# EAGLE library part SI5351A (library SI5351A)
I2C - Programmable Any - Frequency CMOS Clock Generator Source: https://www.silabs.com/Support%20Documents/TechnicalDocs/Si5351-B.pdf
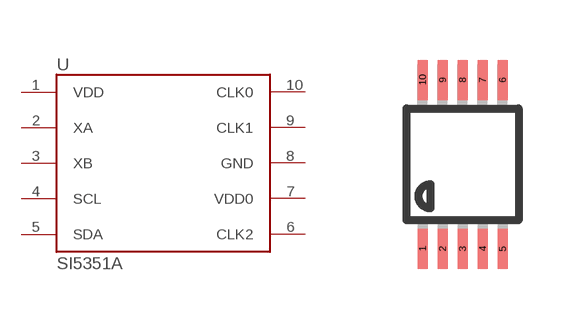
[diagram p0: symbol with the pads of MSOP10; footprint MSOP10]

Designator prefix -

## SI5351ARM  [MSOP10]
1  VDD  pwr
2  XA  in
3  XB  in
4  SCL
5  SDA
6  CLK2  out
7  VDD0  pwr
8  GND  pwr
9  CLK1  out
10  CLK0  out

## Footprint MSOP10 (pad centres in mm)
10-Lead Mini Small Outline Package [MSOP] (RM-10)
smd 0.25 x 1: 1 -1,-2.113; 2 -0.5,-2.113; 3 0,-2.113; 4 0.5,-2.113; 5 1,-2.113; 6 1,2.113; 7 0.5,2.113; 8 0,2.113; 9 -0.5,2.113; 10 -1,2.113